# EAGLE library part ATMEGA16U2 (library atmel)
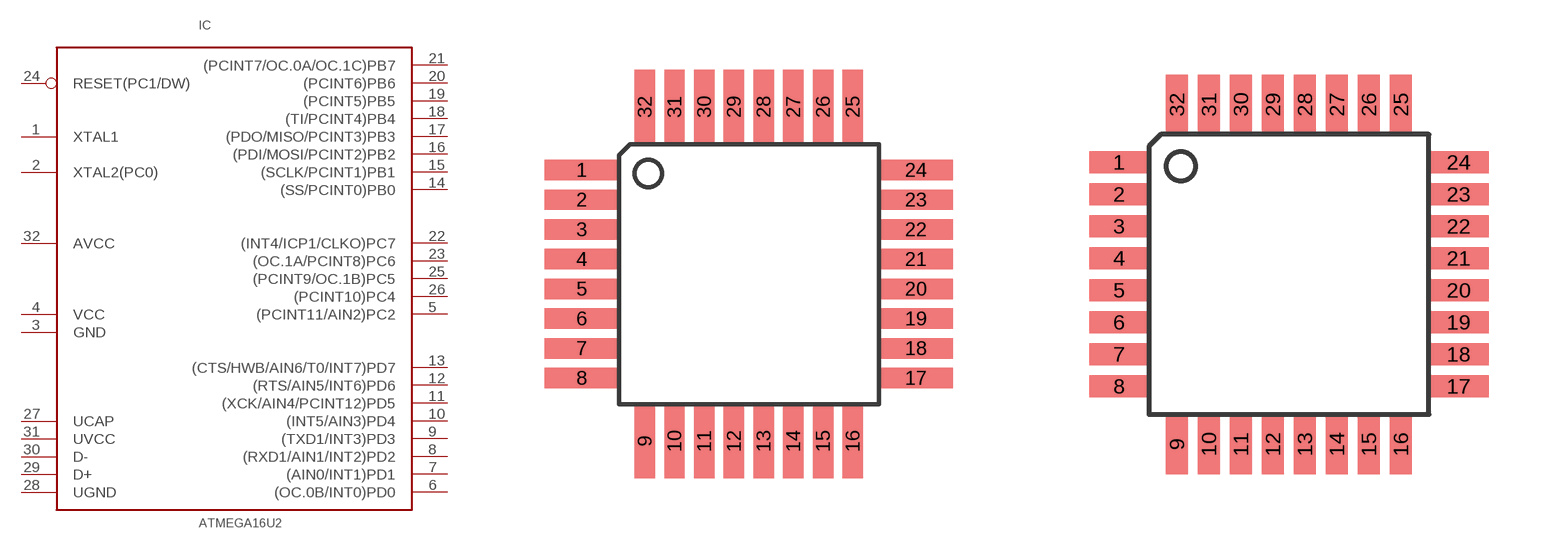
[diagram p0: symbol with the pads of TQFP32; footprints TQFP32, TQFP32_REFLOW]

Designator prefix IC

## ATMEGA16U2_TQFP32  [TQFP32]
1  XTAL1  in
2  XTAL2(PC0)
3  GND  pwr
4  VCC  pwr
5  (PCINT11/AIN2)PC2
6  (OC.0B/INT0)PD0
7  (AIN0/INT1)PD1
8  (RXD1/AIN1/INT2)PD2
9  (TXD1/INT3)PD3
10  (INT5/AIN3)PD4
11  (XCK/AIN4/PCINT12)PD5
12  (RTS/AIN5/INT6)PD6
13  (CTS/HWB/AIN6/T0/INT7)PD7
14  (SS/PCINT0)PB0
15  (SCLK/PCINT1)PB1
16  (PDI/MOSI/PCINT2)PB2
17  (PDO/MISO/PCINT3)PB3
18  (TI/PCINT4)PB4
19  (PCINT5)PB5
20  (PCINT6)PB6
21  (PCINT7/OC.0A/OC.1C)PB7
22  (INT4/ICP1/CLKO)PC7
23  (OC.1A/PCINT8)PC6
24  RESET(PC1/DW)  in
25  (PCINT9/OC.1B)PC5
26  (PCINT10)PC4
27  UCAP  pas
28  UGND  pwr
29  D+
30  D-
31  UVCC  pwr
32  AVCC  pwr

## ATMEGA16U2_TQFP32_REFLOW  [TQFP32_REFLOW]
Pads as for TQFP32

## Footprint TQFP32 (pad centres in mm)
smd 2 x 0.55: 1 -4.5,2.8; 2 -4.5,2; 3 -4.5,1.2; 4 -4.5,0.4; 5 -4.5,-0.4; 6 -4.5,-1.2; 7 -4.5,-2; 8 -4.5,-2.8; 17 4.5,-2.8; 18 4.5,-2; 19 4.5,-1.2; 20 4.5,-0.4; 21 4.5,0.4; 22 4.5,1.2; 23 4.5,2; 24 4.5,2.8
smd 0.55 x 2: 9 -2.8,-4.5; 10 -2,-4.5; 11 -1.2,-4.5; 12 -0.4,-4.5; 13 0.4,-4.5; 14 1.2,-4.5; 15 2,-4.5; 16 2.8,-4.5; 25 2.8,4.5; 26 2,4.5; 27 1.2,4.5; 28 0.4,4.5; 29 -0.4,4.5; 30 -1.2,4.5; 31 -2,4.5; 32 -2.8,4.5

## Footprint TQFP32_REFLOW (pad centres in mm)
smd 1.5 x 0.55: 1 -4.246,2.8; 2 -4.246,2; 3 -4.246,1.2; 4 -4.246,0.4; 5 -4.246,-0.4; 6 -4.246,-1.2; 7 -4.246,-2; 8 -4.246,-2.8; 17 4.246,-2.8; 18 4.246,-2; 19 4.246,-1.2; 20 4.246,-0.4; 21 4.246,0.4; 22 4.246,1.2; 23 4.246,2; 24 4.246,2.8
smd 0.55 x 1.5: 9 -2.8,-4.246; 10 -2,-4.246; 11 -1.2,-4.246; 12 -0.4,-4.246; 13 0.4,-4.246; 14 1.2,-4.246; 15 2,-4.246; 16 2.8,-4.246; 25 2.8,4.246; 26 2,4.246; 27 1.2,4.246; 28 0.4,4.246; 29 -0.4,4.246; 30 -1.2,4.246; 31 -2,4.246; 32 -2.8,4.246